# Altium schematic symbol library SCH - POWER - SWITCHMODE - TI TPS54KB20.SCHLIB: 1 symbol
Pins are listed as number, name and electrical type; pins without a type are passive.

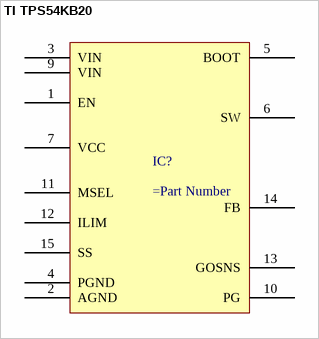
[diagram p0: symbol TI TPS54KB20]

## TI TPS54KB20
designator IC?
pins: 1 EN, 2 AGND, 3 VIN, 4 PGND, 5 BOOT, 6 SW, 7 VCC, 9 VIN, 10 PG, 11 MSEL, 12 ILIM, 13 GOSNS, 14 FB, 15 SS